# EAGLE library part RJPLB-203TC1 (library Taimag)
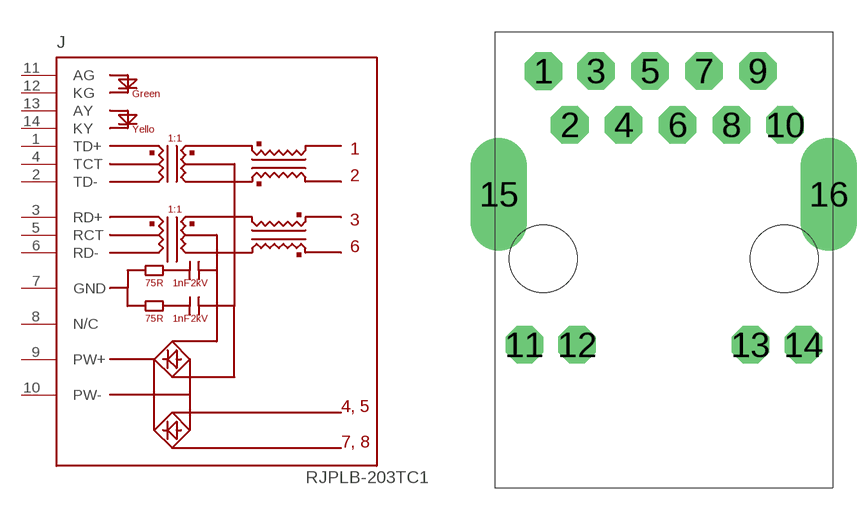
[diagram p4: symbol with the pads of RJPLB-203; footprint RJPLB-203]

Designator prefix J

## RJPLB-203TC1RJ45  [RJPLB-203]
1  TD+
2  TD-
3  RD+
4  TCT
5  RCT
6  RD-
7  GND
8  N/C
9  PW+
10  PW-
11  AG
12  KG
13  AY
14  KY

## Footprint RJPLB-203 (pad centres in mm)
drill 1.016 pad 1.778 octagon: 1 -6.325,8.888; 2 -5.085,6.348; 3 -3.835,8.898; 4 -2.535,6.348; 5 -1.285,8.898; 6 0.015,6.348; 7 1.265,8.898; 8 2.565,6.348; 9 3.815,8.898; 10 5.105,6.348; 11 -7.235,-4.062; 12 -4.735,-4.062; 13 3.465,-4.062; 14 5.965,-4.062
drill 1.778 pad 1.905 long: 15 -8.435,3.058; 16 7.165,3.058
hole 3.2 at 5.065,0.008
hole 3.2 at -6.335,0.008